# EAGLE library part 648110131822 (library Wire-to-Board (rev18a))
WR-WTB 1.50mm SMT Male Horizontal Shrouded Header, 10 Pins=>Code : Con_WTB_1.50_PCB_SMT_648110131822 <http://katalog.we-online.de/media/thumbs2/eican/thb_Con_WTB_1.50_PCB_SMT_6481xx131822_pf2.jpg> Details see: http://katalog.we-online.de/en/em/WTB_1_50_SMT_MALE_HORIZONTAL_SHROUDED_HEADER_6481XX131822 Created 2014-06-06, Karrer Zheng 2014 (C) Würth Elektronik
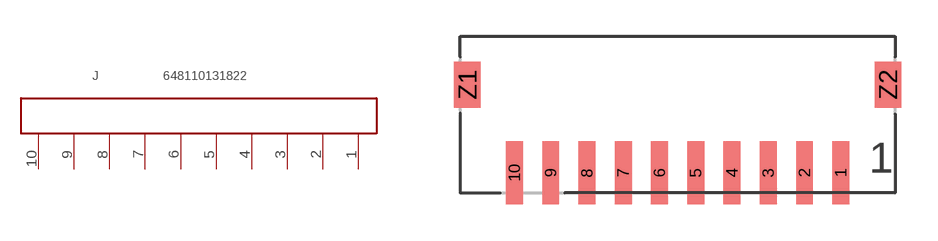
[diagram p52: symbol with the pads of 648110131822; footprint 648110131822]

Designator prefix J

## 648110131822  [648110131822]
1  1  pas
2  2  pas
3  3  pas
4  4  pas
5  5  pas
6  6  pas
7  7  pas
8  8  pas
9  9  pas
10  10  pas

## Footprint 648110131822 (pad centres in mm)
WR-WTB 1.50mm SMT Male Horizontal Shrouded Header, 10 Pins
smd 0.7 x 2.6: 1 6.75,0; 2 5.25,0; 3 3.75,0; 4 2.25,0; 5 0.75,0; 6 -0.75,0; 7 -2.25,0; 8 -3.75,0; 9 -5.25,0; 10 -6.75,0
smd 1.1 x 1.9: Z1 -8.7,3.65; Z2 8.7,3.65